# Altium footprint library Balun.PcbLib: 1 footprints
Each footprint in its own frame and in the unit in brackets; x right, y up, seen from the top. Pads: shape width x height; smd on the part's side, far side on the other; paste and mask are expansions set on the pad; w line width, h text height; cw(c..) or ccw(c..) is an arc to the next point about the centre after c.
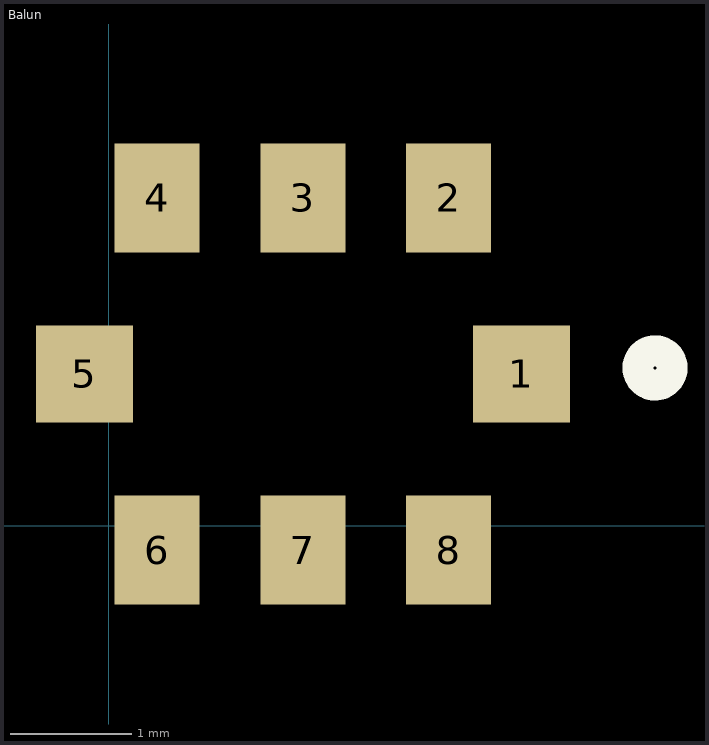
[diagram p0: the footprint, top view; thin cyan lines are the x and y axes]

## Balun [mm]
pads (8):
  rect 0.8x0.8 smd: 1(3.4,1.25) 5(-0.2,1.25)
  rect 0.7x0.9 smd: 2(2.8,2.7) 3(1.6,2.7) 4(0.4,2.7) 6(0.4,-0.2) 7(1.6,-0.2) 8(2.8,-0.2)
Top Overlay:
  circle w0.254: c4.5,1.3 r0.141
3D body: height 1.6, standoff 0, extent -0.1,0.9 0.1,1.6
3D body: height 1.6, standoff 0, extent 0.1,2.4 0.7,2.6
3D body: height 1.6, standoff 0, extent 1.3,2.4 1.9,2.6
3D body: height 1.6, standoff 0, extent 2.5,2.4 3.1,2.6
3D body: height 1.6, standoff 0, extent 3.1,0.9 3.3,1.6
3D body: height 1.6, standoff 0, extent 2.5,-0.1 3.1,0.1
3D body: height 1.6, standoff 0, extent 1.3,-0.1 1.9,0.1
3D body: height 1.6, standoff 0, extent 0.1,-0.1 0.7,0.1
3D body: height 1.6, standoff 1.5, extent 1.7,1 2.5,1.6
3D body: height 1.5, standoff 0.2, extent 0,0 3.2,2.5